# EAGLE library part G10R (library resistor-sil)
SIL RESISTOR
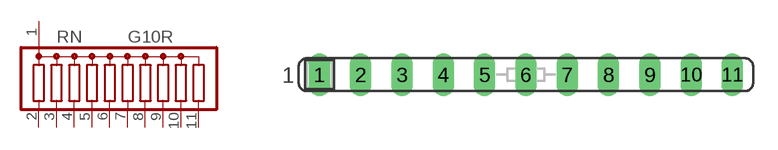
[diagram p47: symbol with the pads of SIL11; footprint SIL11]

Designator prefix RN

## G10R (OC_FARNELL: unknown; OC_NEWARK: unknown)  [SIL11]
1  1  pas
2  2  pas
3  3  pas
4  4  pas
5  5  pas
6  6  pas
7  7  pas
8  8  pas
9  9  pas
10  10  pas
11  11  pas

## Footprint SIL11 (pad centres in mm)
Single In Line
drill 0.813 long: 1 -12.7,0; 2 -10.16,0; 3 -7.62,0; 4 -5.08,0; 5 -2.54,0; 6 0,0; 7 2.54,0; 8 5.08,0; 9 7.62,0; 10 10.16,0; 11 12.7,0